# EAGLE library part RJSS-5381 (library amphenol)
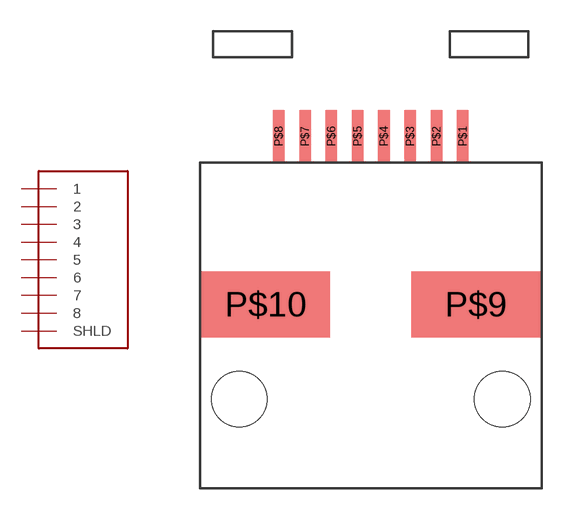
[diagram p0: symbol with the pads of RJSS-5381; footprint RJSS-5381]

Designator prefix -

## RJSS-5381  [RJSS-5381]
P$1  1
P$2  2
P$3  3
P$4  4
P$5  5
P$6  6
P$7  7
P$8  8
P$9  SHLD  pwr
P$10  P$1  pwr

## Footprint RJSS-5381 (pad centres in mm)
smd 0.559 x 2.54: P$1 4.445,12.7; P$2 3.175,12.7; P$3 1.905,12.7; P$4 0.635,12.7; P$5 -0.635,12.7; P$6 -1.905,12.7; P$7 -3.175,12.7; P$8 -4.445,12.7
smd 6.223 x 3.175: P$9 5.08,4.572; P$10 -5.08,4.572
hole 2.692 at -6.35,0
hole 2.692 at 6.35,0